# Altium schematic symbol library Res_TE_Connectivity_SQMW547RJ_eec.SchLib: 1 symbol
Pins are listed as number, name and electrical type; pins without a type are passive.

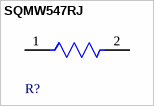
[diagram p0: symbol SQMW547RJ]

## SQMW547RJ
designator R?  (value not drawn)
pins: 1, 2